# EAGLE library part LM25576 (library _RoweTel)
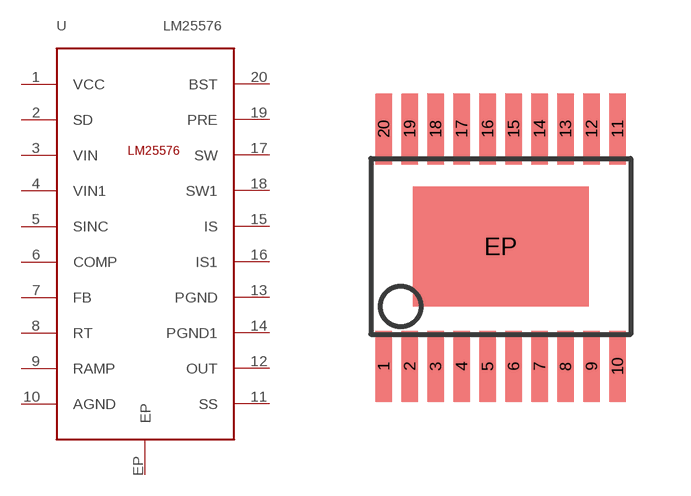
[diagram p34: symbol with the pads of TSSOP20EP; footprint TSSOP20EP]

Designator prefix U

## LM25576  [TSSOP20EP]
1  VCC
2  SD
3  VIN
4  VIN1
5  SINC
6  COMP
7  FB
8  RT
9  RAMP
10  AGND
11  SS
12  OUT
13  PGND
14  PGND1
15  IS
16  IS1
17  SW
18  SW1
19  PRE
20  BST
EP  EP

## Footprint TSSOP20EP (pad centres in mm)
smd 0.42 x 1.78: 1 -2.925,-3; 2 -2.275,-3; 3 -1.625,-3; 4 -0.975,-3; 5 -0.325,-3; 6 0.325,-3; 7 0.975,-3; 8 1.625,-3; 9 2.275,-3; 10 2.925,-3; 11 2.925,2.941; 12 2.275,2.941; 13 1.625,2.941; 14 0.975,2.941; 15 0.325,2.941; 16 -0.325,2.941; 17 -0.975,2.941; 18 -1.625,2.941; 19 -2.275,2.941; 20 -2.925,2.941
smd 1.27 x 0.635: EP 0,0